# EAGLE library part P-H503-PC (library switch)
DPDT Stomp Switch
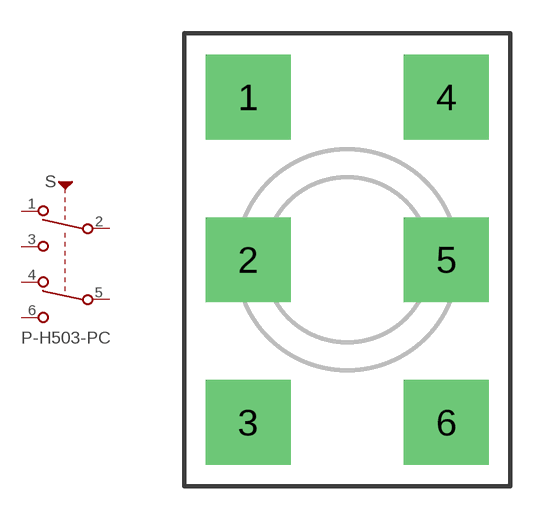
[diagram p17: symbol with the pads of P-H503-PC; footprint P-H503-PC]

Designator prefix S

## P-H503-PC  [P-H503-PC]
1  A1  pas
2  A2  pas
3  A3  pas
4  B1  pas
5  B2  pas
6  B3  pas

## Footprint P-H503-PC (pad centres in mm)
DPDT Stomp Switch Black Taiwan, YIS, 46489.9
drill 1.778 pad 3.81 square: 1 -4.445,7.303; 2 -4.445,0; 3 -4.445,-7.303; 4 4.445,7.303; 5 4.445,0; 6 4.445,-7.303